# Altium schematic symbol library Schlib1.SchLib: 41 symbols
Pins are listed as number, name and electrical type; pins without a type are passive.

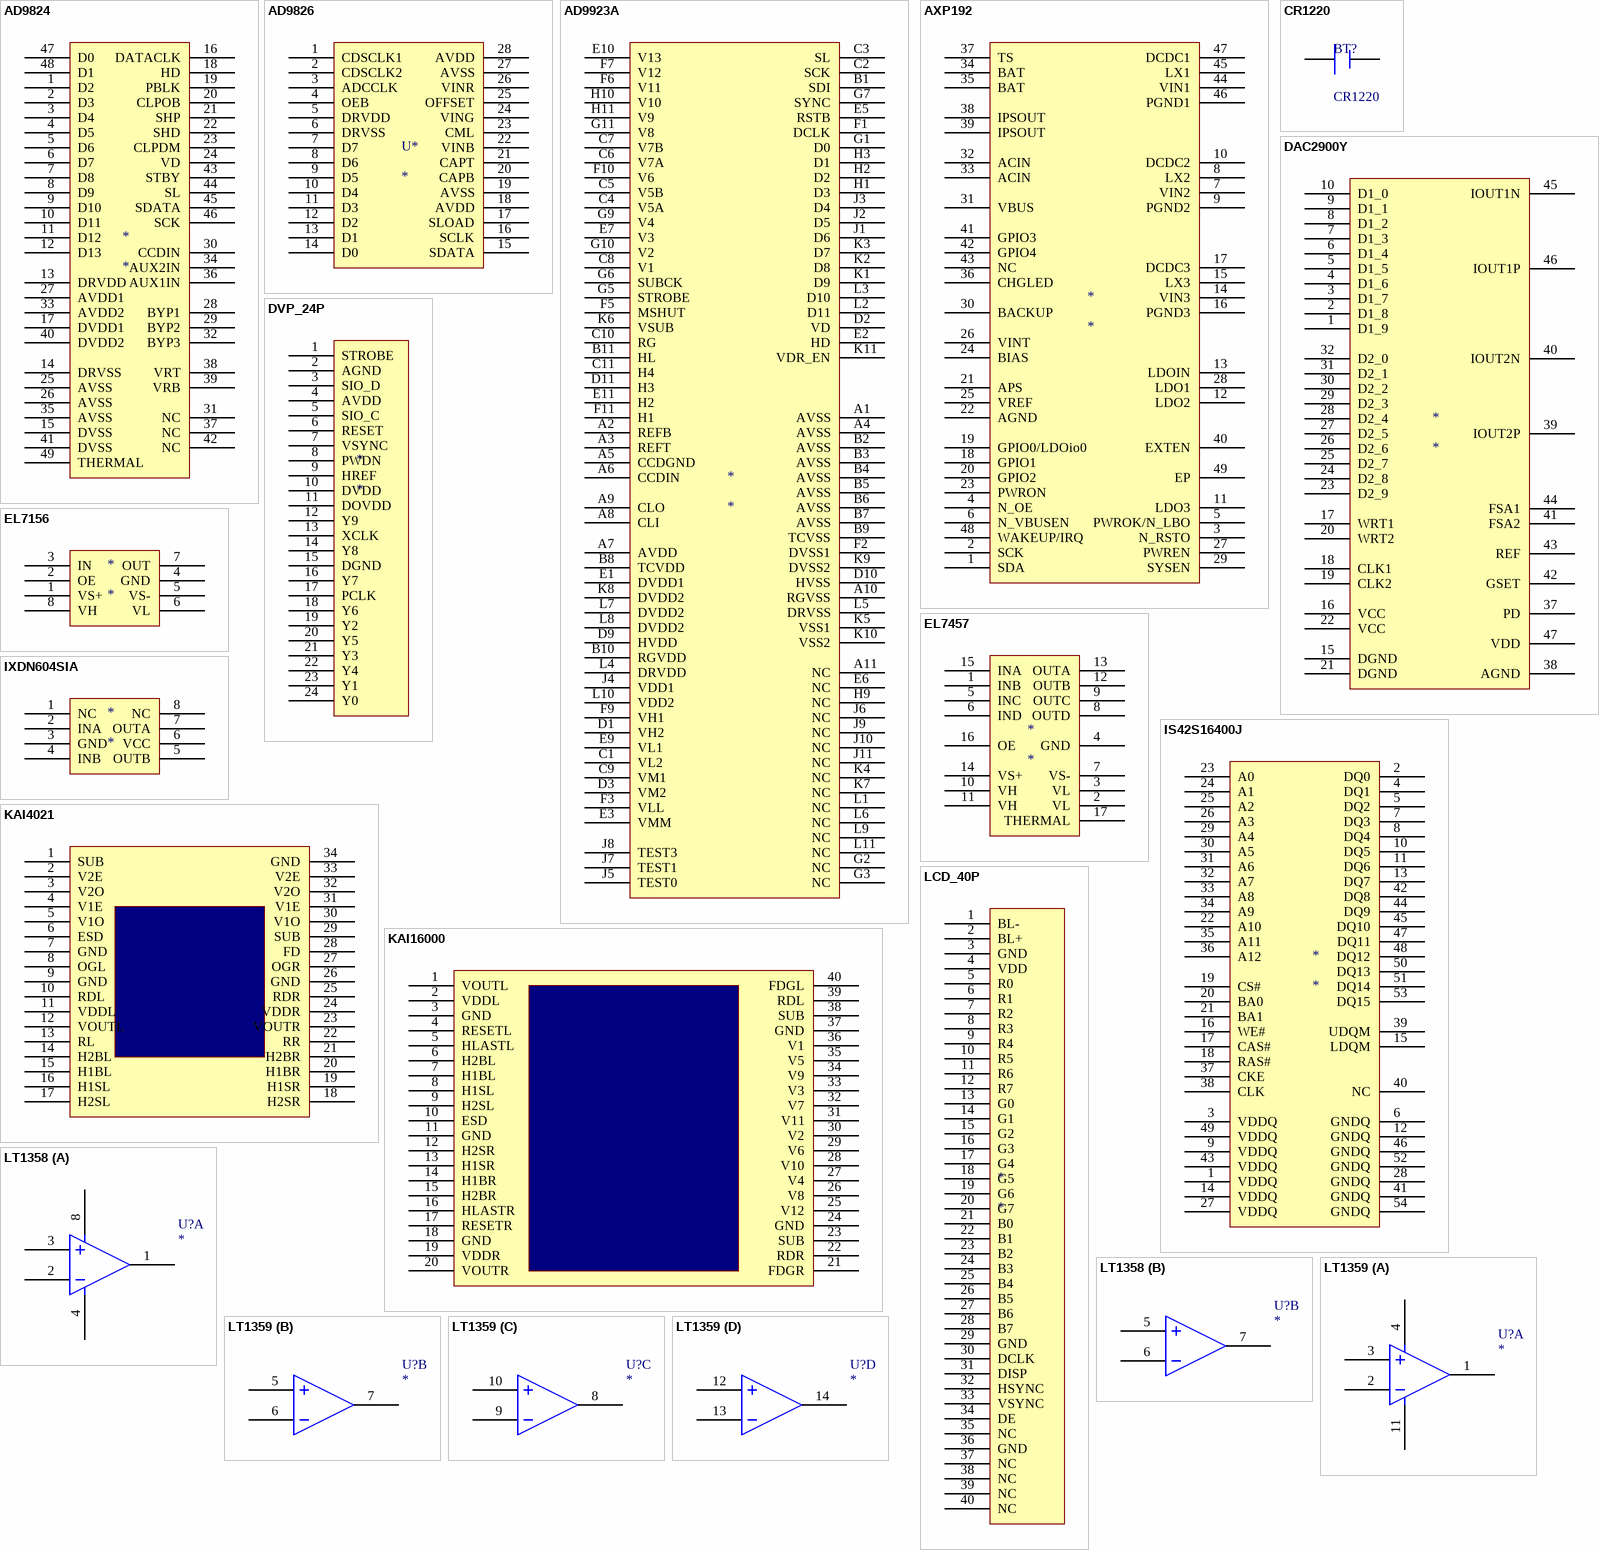
[diagram p0: symbols AD9824 to LT1359]

## AD9824
designator *
footprint CP-48 (Footprint not found)
pins: 1 D2, 2 D3, 3 D4, 4 D5, 5 D6, 6 D7, 7 D8, 8 D9, 9 D10, 10 D11, 11 D12, 12 D13, 13 DRVDD, 14 DRVSS, 15 DVSS, 16 DATACLK, 17 DVDD1, 18 HD, 19 PBLK, 20 CLPOB, 21 SHP, 22 SHD, 23 CLPDM, 24 VD, 25 AVSS, 26 AVSS, 27 AVDD1, 28 BYP1, 29 BYP2, 30 CCDIN, 31 NC, 32 BYP3, 33 AVDD2, 34 AUX2IN, 35 AVSS, 36 AUX1IN, 37 NC, 38 VRT, 39 VRB, 40 DVDD2, 41 DVSS, 42 NC, 43 STBY, 44 SL, 45 SDATA, 46 SCK, 47 D0, 48 D1, 49 THERMAL

## AD9826
designator U*
pins: 1 CDSCLK1, 2 CDSCLK2, 3 ADCCLK, 4 OEB, 5 DRVDD, 6 DRVSS, 7 D7, 8 D6, 9 D5, 10 D4, 11 D3, 12 D2, 13 D1, 14 D0, 15 SDATA, 16 SCLK, 17 SLOAD, 18 AVDD, 19 AVSS, 20 CAPB, 21 CAPT, 22 VINB, 23 CML, 24 VING, 25 OFFSET, 26 VINR, 27 AVSS, 28 AVDD

## AD9923A
designator *
pins: A1 AVSS, A2 REFB, A3 REFT, A4 AVSS, A5 CCDGND, A6 CCDIN, A7 AVDD, A8 CLI, A9 CLO, A10 RGVSS, A11 NC, B1 SDI, B2 AVSS, B3 AVSS, B4 AVSS, B5 AVSS, B6 AVSS, B7 AVSS, B8 TCVDD, B9 TCVSS, B10 RGVDD, B11 HL, C1 VL2, C2 SCK, C3 SL, C4 V5A, C5 V5B, C6 V7A, C7 V7B, C8 V1, C9 VM1, C10 RG, C11 H4, D1 VH2, D2 VD, D3 VM2, D9 HVDD, D10 HVSS, D11 H3, E1 DVDD1, E2 HD, E3 VMM, E5 RSTB, E6 NC, E7 V3, E9 VL1, E10 V13, E11 H2, F1 DCLK, F2 DVSS1, F3 VLL, F5 MSHUT, F6 V11, F7 V12, F9 VH1, F10 V6, F11 H1, G1 D0, G2 NC, G3 NC, G5 STROBE, G6 SUBCK, G7 SYNC, G9 V4, G10 V2, G11 V8, H1 D3, H2 D2, H3 D1, H9 NC, H10 V10, H11 V9, J1 D6, J2 D5, J3 D4, J4 VDD1, J5 TEST0, J6 NC, J7 TEST1, J8 TEST3, J9 NC, J10 NC, J11 NC, K1 D9, K2 D8, K3 D7, K4 NC, K5 VSS1, K6 VSUB, K7 NC, K8 DVDD2, K9 DVSS2, K10 VSS2, K11 VDR_EN, L1 NC, L2 D11, L3 D10, L4 DRVDD, L5 DRVSS, L6 NC, L7 DVDD2, L8 DVDD2, L9 NC, L10 VDD2, L11 NC

## AXP192
designator *
footprint QFN-48 (Footprint not found)
pins: 1 SDA, 2 SCK, 3 N_RSTO, 4 N_OE, 5 PWROK/N_LBO, 6 N_VBUSEN, 7 VIN2, 8 LX2, 9 PGND2, 10 DCDC2, 11 LDO3, 12 LDO2, 13 LDOIN, 14 VIN3, 15 LX3, 16 PGND3, 17 DCDC3, 18 GPIO1, 19 GPIO0/LDOio0, 20 GPIO2, 21 APS, 22 AGND, 23 PWRON, 24 BIAS, 25 VREF, 26 VINT, 27 PWREN, 28 LDO1, 29 SYSEN, 30 BACKUP, 31 VBUS, 32 ACIN, 33 ACIN, 34 BAT, 35 BAT, 36 CHGLED, 37 TS, 38 IPSOUT, 39 IPSOUT, 40 EXTEN, 41 GPIO3, 42 GPIO4, 43 NC, 44 VIN1, 45 LX1, 46 PGND1, 47 DCDC1, 48 WAKEUP/IRQ, 49 EP

## CR1220
designator BT?
Published: 24-Mar-1999; LatestRevisionDate: 17-Jul-2002; LatestRevisionNote: Re-released for DXP Platform.; PackageReference: BAT-2; Publisher: Altium Limited; PackageDescription: Battery; 2 Leads
footprint CR1220
pins: 1 +, 2 -

## DAC2900Y
designator *
pins: 1 D1_9, 2 D1_8, 3 D1_7, 4 D1_6, 5 D1_5, 6 D1_4, 7 D1_3, 8 D1_2, 9 D1_1, 10 D1_0, 15 DGND, 16 VCC, 17 WRT1, 18 CLK1, 19 CLK2, 20 WRT2, 21 DGND, 22 VCC, 23 D2_9, 24 D2_8, 25 D2_7, 26 D2_6, 27 D2_5, 28 D2_4, 29 D2_3, 30 D2_2, 31 D2_1, 32 D2_0, 37 PD, 38 AGND, 39 IOUT2P, 40 IOUT2N, 41 FSA2, 42 GSET, 43 REF, 44 FSA1, 45 IOUT1N, 46 IOUT1P, 47 VDD

## DVP_24P
designator *
footprint 24PIN-0.5MM (Footprint not found)
pins: 1 STROBE, 2 AGND, 3 SIO_D, 4 AVDD, 5 SIO_C, 6 RESET, 7 VSYNC, 8 PWDN, 9 HREF, 10 DVDD, 11 DOVDD, 12 Y9, 13 XCLK, 14 Y8, 15 DGND, 16 Y7, 17 PCLK, 18 Y6, 19 Y2, 20 Y5, 21 Y3, 22 Y4, 23 Y1, 24 Y0

## EL7156
designator *
footprint SOP-8 (Footprint not found)
pins: 1 VS+, 2 OE, 3 IN, 4 GND, 5 VS-, 6 VL, 7 OUT, 8 VH

## EL7457
designator *
footprint QFN16 (Footprint not found)
pins: 1 INB, 2 VL, 3 VL, 4 GND, 5 INC, 6 IND, 7 VS-, 8 OUTD, 9 OUTC, 10 VH, 11 VH, 12 OUTB, 13 OUTA, 14 VS+, 15 INA, 16 OE, 17 THERMAL

## IS42S16400J
designator *
footprint TSOP54
pins: 1 VDDQ, 2 DQ0, 3 VDDQ, 4 DQ1, 5 DQ2, 6 GNDQ, 7 DQ3, 8 DQ4, 9 VDDQ, 10 DQ5, 11 DQ6, 12 GNDQ, 13 DQ7, 14 VDDQ, 15 LDQM, 16 WE#, 17 CAS#, 18 RAS#, 19 CS#, 20 BA0, 21 BA1, 22 A10, 23 A0, 24 A1, 25 A2, 26 A3, 27 VDDQ, 28 GNDQ, 29 A4, 30 A5, 31 A6, 32 A7, 33 A8, 34 A9, 35 A11, 36 A12, 37 CKE, 38 CLK, 39 UDQM, 40 NC, 41 GNDQ, 42 DQ8, 43 VDDQ, 44 DQ9, 45 DQ10, 46 GNDQ, 47 DQ11, 48 DQ12, 49 VDDQ, 50 DQ13, 51 DQ14, 52 GNDQ, 53 DQ15, 54 GNDQ

## IXDN604SIA
designator *
footprint SOP8 (Footprint not found)
pins: 1 NC, 2 INA, 3 GND, 4 INB, 5 OUTB, 6 VCC, 7 OUTA, 8 NC

## KAI4021
designator *
pins: 1 SUB, 2 V2E, 3 V2O, 4 V1E, 5 V1O, 6 ESD, 7 GND, 8 OGL, 9 GND, 10 RDL, 11 VDDL, 12 VOUTL, 13 RL, 14 H2BL, 15 H1BL, 16 H1SL, 17 H2SL, 18 H2SR, 19 H1SR, 20 H1BR, 21 H2BR, 22 RR, 23 VOUTR, 24 VDDR, 25 RDR, 26 GND, 27 OGR, 28 FD, 29 SUB, 30 V1O, 31 V1E, 32 V2O, 33 V2E, 34 GND

## KAI16000
designator *
footprint KAI16000 (Footprint not found)
pins: 1 VOUTL, 2 VDDL, 3 GND, 4 RESETL, 5 HLASTL, 6 H2BL, 7 H1BL, 8 H1SL, 9 H2SL, 10 ESD, 11 GND, 12 H2SR, 13 H1SR, 14 H1BR, 15 H2BR, 16 HLASTR, 17 RESETR, 18 GND, 19 VDDR, 20 VOUTR, 21 FDGR, 22 RDR, 23 SUB, 24 GND, 25 V12, 26 V8, 27 V4, 28 V10, 29 V6, 30 V2, 31 V11, 32 V7, 33 V3, 34 V9, 35 V5, 36 V1, 37 GND, 38 SUB, 39 RDL, 40 FDGL

## LCD_40P
designator *
footprint 40PIN-0.5MM (Footprint not found)
pins: 1 BL-, 2 BL+, 3 GND, 4 VDD, 5 R0, 6 R1, 7 R2, 8 R3, 9 R4, 10 R5, 11 R6, 12 R7, 13 G0, 14 G1, 15 G2, 16 G3, 17 G4, 18 G5, 19 G6, 20 G7, 21 B0, 22 B1, 23 B2, 24 B3, 25 B4, 26 B5, 27 B6, 28 B7, 29 GND, 30 DCLK, 31 DISP, 32 HSYNC, 33 VSYNC, 34 DE, 35 NC, 36 GND, 37 NC, 38 NC, 39 NC, 40 NC

## LT1358
designator U?
part A pins: 1, 2, 3, 4, 8
part B pins: 5, 6, 7

## LT1359
designator U?
footprint DIP-14
part A pins: 1, 2, 3, 4, 11
part B pins: 5, 6, 7
part C pins: 8, 9, 10
part D pins: 12, 13, 14

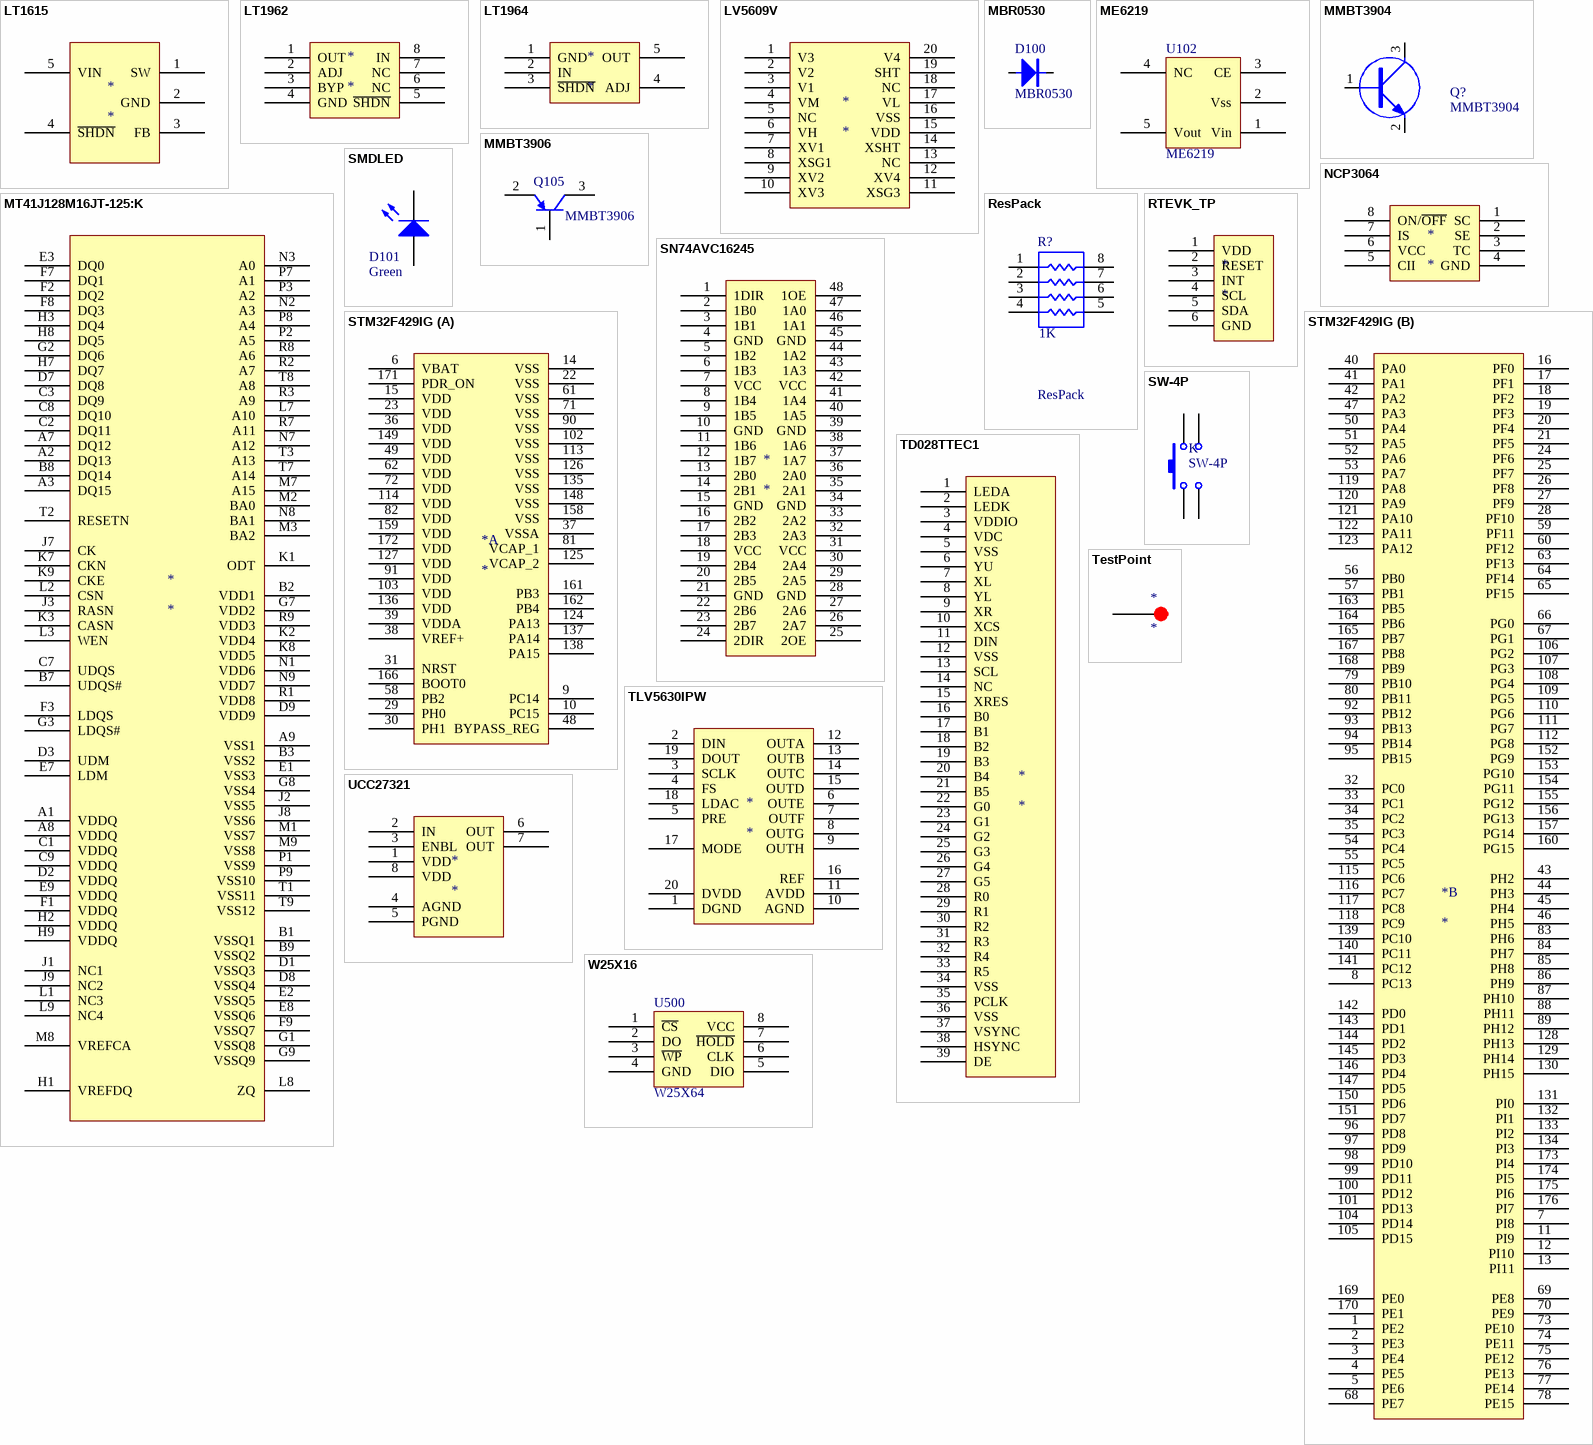
[diagram p1: symbols LT1615 to W25X16]

## LT1615
designator *
footprint SOT-23-5
pins: 1 SW, 2 GND, 3 FB, 4 ~{SHDN}, 5 VIN

## LT1962
designator *
footprint MS8 (Footprint not found)
pins: 1 OUT, 2 ADJ, 3 BYP, 4 GND, 5 ~{SHDN}, 6 NC, 7 NC, 8 IN

## LT1964
designator *
footprint SOT25 (Footprint not found)
pins: 1 GND, 2 IN, 3 ~{SHDN}, 4 ADJ, 5 OUT

## LV5609V
designator *
pins: 1 V3, 2 V2, 3 V1, 4 VM, 5 NC, 6 VH, 7 XV1, 8 XSG1, 9 XV2, 10 XV3, 11 XSG3, 12 XV4, 13 NC, 14 XSHT, 15 VDD, 16 VSS, 17 VL, 18 NC, 19 SHT, 20 V4

## MBR0530
designator D100
footprint SOD-123
pins: 1, 2

## ME6219
designator U102
footprint SOT-23-5
pins: 1 Vin, 2 Vss, 3 CE, 4 NC, 5 Vout

## MMBT3904
designator Q?
footprint SOT23
pins: 1 B, 2 E, 3 C

## MMBT3906
designator Q105
Published: 8-Jun-2000; LatestRevisionDate: 29-May-2009; LatestRevisionNote: IPC-7351 Footprint Added.; PackageVersion: Aug-1999; PackageReference: SOT-23B; Publisher: Altium Limited; PackageDescription: 3-Pin SOT-23 Package 0.95 mm Pitch, 2.4 mm Lead Span
footprint SOT23
pins: 1 B, 2 E, 3 C

## MT41J128M16JT-125:K
designator *
pins: A1 VDDQ, A2 DQ13, A3 DQ15, A7 DQ12, A8 VDDQ, A9 VSS1, B1 VSSQ1, B2 VDD1, B3 VSS2, B7 UDQS#, B8 DQ14, B9 VSSQ2, C1 VDDQ, C2 DQ11, C3 DQ9, C7 UDQS, C8 DQ10, C9 VDDQ, D1 VSSQ3, D2 VDDQ, D3 UDM, D7 DQ8, D8 VSSQ4, D9 VDD9, E1 VSS3, E2 VSSQ5, E3 DQ0, E7 LDM, E8 VSSQ6, E9 VDDQ, F1 VDDQ, F2 DQ2, F3 LDQS, F7 DQ1, F8 DQ3, F9 VSSQ7, G1 VSSQ8, G2 DQ6, G3 LDQS#, G7 VDD2, G8 VSS4, G9 VSSQ9, H1 VREFDQ, H2 VDDQ, H3 DQ4, H7 DQ7, H8 DQ5, H9 VDDQ, J1 NC1, J2 VSS5, J3 RASN, J7 CK, J8 VSS6, J9 NC2, K1 ODT, K2 VDD4, K3 CASN, K7 CKN, K8 VDD5, K9 CKE, L1 NC3, L2 CSN, L3 WEN, L7 A10, L8 ZQ, L9 NC4, M1 VSS7, M2 BA0, M3 BA2, M7 A15, M8 VREFCA, M9 VSS8, N1 VDD6, N2 A3, N3 A0, N7 A12, N8 BA1, N9 VDD7, P1 VSS9, P2 A5, P3 A2, P7 A1, P8 A4, P9 VSS10, R1 VDD8, R2 A7, R3 A9, R7 A11, R8 A6, R9 VDD3, T1 VSS11, T2 RESETN, T3 A13, T7 A14, T8 A8, T9 VSS12

## NCP3064
designator *
footprint SOP-8 (Footprint not found)
pins: 1 SC, 2 SE, 3 TC, 4 GND, 5 CII, 6 VCC, 7 IS, 8 ON/~{OFF}

## ResPack
designator R?  value 1K
Isolated Resistor Network; Published: 24-Mar-1999; LatestRevisionDate: 29-May-2009; LatestRevisionNote: IPC-7351 Footprint Added.; PackageReference: SO-16; Publisher: Altium Limited; PackageDescription: 16-Pin Small Outline Integrated Circuit 1.27 mm Pitch; Code_JEDEC: MS-012-AC; Code_IPC: SOIC127P600-16
footprint RP8
pins: 1, 2, 3, 4, 5, 6, 7, 8

## RTEVK_TP
designator *
footprint CTP (Footprint not found)
pins: 1 VDD, 2 RESET, 3 INT, 4 SCL, 5 SDA, 6 GND

## SMDLED
designator D101, comment Green
Typical RED, GREEN, YELLOW, AMBER GaAs LED; Published: 8-Jun-2000; LatestRevisionDate: 17-Jul-2002; LatestRevisionNote: Re-released for DXP Platform.; PackageVersion: Feb-2002; PackageReference: 3.2X1.6X1.1; Publisher: Altium Limited; PackageDescription: SM LED; 2 Flat Leads
footprint D0805 (Footprint not found)
simulation model LED2 (Diode)
pins: A, K

## SN74AVC16245
designator *
footprint TSSOP-48
pins: 1 1DIR, 2 1B0, 3 1B1, 4 GND, 5 1B2, 6 1B3, 7 VCC, 8 1B4, 9 1B5, 10 GND, 11 1B6, 12 1B7, 13 2B0, 14 2B1, 15 GND, 16 2B2, 17 2B3, 18 VCC, 19 2B4, 20 2B5, 21 GND, 22 2B6, 23 2B7, 24 2DIR, 25 2OE, 26 2A7, 27 2A6, 28 GND, 29 2A5, 30 2A4, 31 VCC, 32 2A3, 33 2A2, 34 GND, 35 2A1, 36 2A0, 37 1A7, 38 1A6, 39 GND, 40 1A5, 41 1A4, 42 VCC, 43 1A3, 44 1A2, 45 GND, 46 1A1, 47 1A0, 48 1OE

## STM32F429IG
designator *
footprint LQFP176
part A pins: 6 VBAT, 9 PC14, 10 PC15, 14 VSS, 15 VDD, 22 VSS, 23 VDD, 29 PH0, 30 PH1, 31 NRST, 36 VDD, 37 VSSA, 38 VREF+, 39 VDDA, 48 BYPASS_REG, 49 VDD, 58 PB2, 61 VSS, 62 VDD, 71 VSS, 72 VDD, 81 VCAP_1, 82 VDD, 90 VSS, 91 VDD, 102 VSS, 103 VDD, 113 VSS, 114 VDD, 124 PA13, 125 VCAP_2, 126 VSS, 127 VDD, 135 VSS, 136 VDD, 137 PA14, 138 PA15, 148 VSS, 149 VDD, 158 VSS, 159 VDD, 161 PB3, 162 PB4, 166 BOOT0, 171 PDR_ON, 172 VDD
part B pins: 1 PE2, 2 PE3, 3 PE4, 4 PE5, 5 PE6, 7 PI8, 8 PC13, 11 PI9, 12 PI10, 13 PI11, 16 PF0, 17 PF1, 18 PF2, 19 PF3, 20 PF4, 21 PF5, 24 PF6, 25 PF7, 26 PF8, 27 PF9, 28 PF10, 32 PC0, 33 PC1, 34 PC2, 35 PC3, 40 PA0, 41 PA1, 42 PA2, 43 PH2, 44 PH3, 45 PH4, 46 PH5, 47 PA3, 50 PA4, 51 PA5, 52 PA6, 53 PA7, 54 PC4, 55 PC5, 56 PB0, 57 PB1, 59 PF11, 60 PF12, 63 PF13, 64 PF14, 65 PF15, 66 PG0, 67 PG1, 68 PE7, 69 PE8, 70 PE9, 73 PE10, 74 PE11, 75 PE12, 76 PE13, 77 PE14, 78 PE15, 79 PB10, 80 PB11, 83 PH6, 84 PH7, 85 PH8, 86 PH9, 87 PH10, 88 PH11, 89 PH12, 92 PB12, 93 PB13, 94 PB14, 95 PB15, 96 PD8, 97 PD9, 98 PD10, 99 PD11, 100 PD12, 101 PD13, 104 PD14, 105 PD15, 106 PG2, 107 PG3, 108 PG4, 109 PG5, 110 PG6, 111 PG7, 112 PG8, 115 PC6, 116 PC7, 117 PC8, 118 PC9, 119 PA8, 120 PA9, 121 PA10, 122 PA11, 123 PA12, 128 PH13, 129 PH14, 130 PH15, 131 PI0, 132 PI1, 133 PI2, 134 PI3, 139 PC10, 140 PC11, 141 PC12, 142 PD0, 143 PD1, 144 PD2, 145 PD3, 146 PD4, 147 PD5, 150 PD6, 151 PD7, 152 PG9, 153 PG10, 154 PG11, 155 PG12, 156 PG13, 157 PG14, 160 PG15, 163 PB5, 164 PB6, 165 PB7, 167 PB8, 168 PB9, 169 PE0, 170 PE1, 173 PI4, 174 PI5, 175 PI6, 176 PI7

## SW-4P
designator K
Switch; Published: 24-Mar-1999; LatestRevisionDate: 17-Jul-2002; LatestRevisionNote: Re-released for DXP Platform.; PackageReference: SPST-2; Publisher: Altium Limited; PackageDescription: Switch; 2 Leads
footprint KEY-4P (Footprint not found)
pins: 1, 2, 3, 4

## TD028TTEC1
designator *
pins: 1 LEDA, 2 LEDK, 3 VDDIO, 4 VDC, 5 VSS, 6 YU, 7 XL, 8 YL, 9 XR, 10 XCS, 11 DIN, 12 VSS, 13 SCL, 14 NC, 15 XRES, 16 B0, 17 B1, 18 B2, 19 B3, 20 B4, 21 B5, 22 G0, 23 G1, 24 G2, 25 G3, 26 G4, 27 G5, 28 R0, 29 R1, 30 R2, 31 R3, 32 R4, 33 R5, 34 VSS, 35 PCLK, 36 VSS, 37 VSYNC, 38 HSYNC, 39 DE

## TestPoint
designator *
footprint T_0_7 (Footprint not found)
pins: 1 CMPCS_B

## TLV5630IPW
designator *
pins: 1 DGND, 2 DIN, 3 SCLK, 4 FS, 5 PRE, 6 OUTE, 7 OUTF, 8 OUTG, 9 OUTH, 10 AGND, 11 AVDD, 12 OUTA, 13 OUTB, 14 OUTC, 15 OUTD, 16 REF, 17 MODE, 18 LDAC, 19 DOUT, 20 DVDD

## UCC27321
designator *
pins: 1 VDD, 2 IN, 3 ENBL, 4 AGND, 5 PGND, 6 OUT, 7 OUT, 8 VDD

## W25X16
designator U500, comment W25X64
footprint SOIC8
pins: 1 ~{CS}, 2 DO, 3 ~{WP}, 4 GND, 5 DIO, 6 CLK, 7 ~{HOLD}, 8 VCC

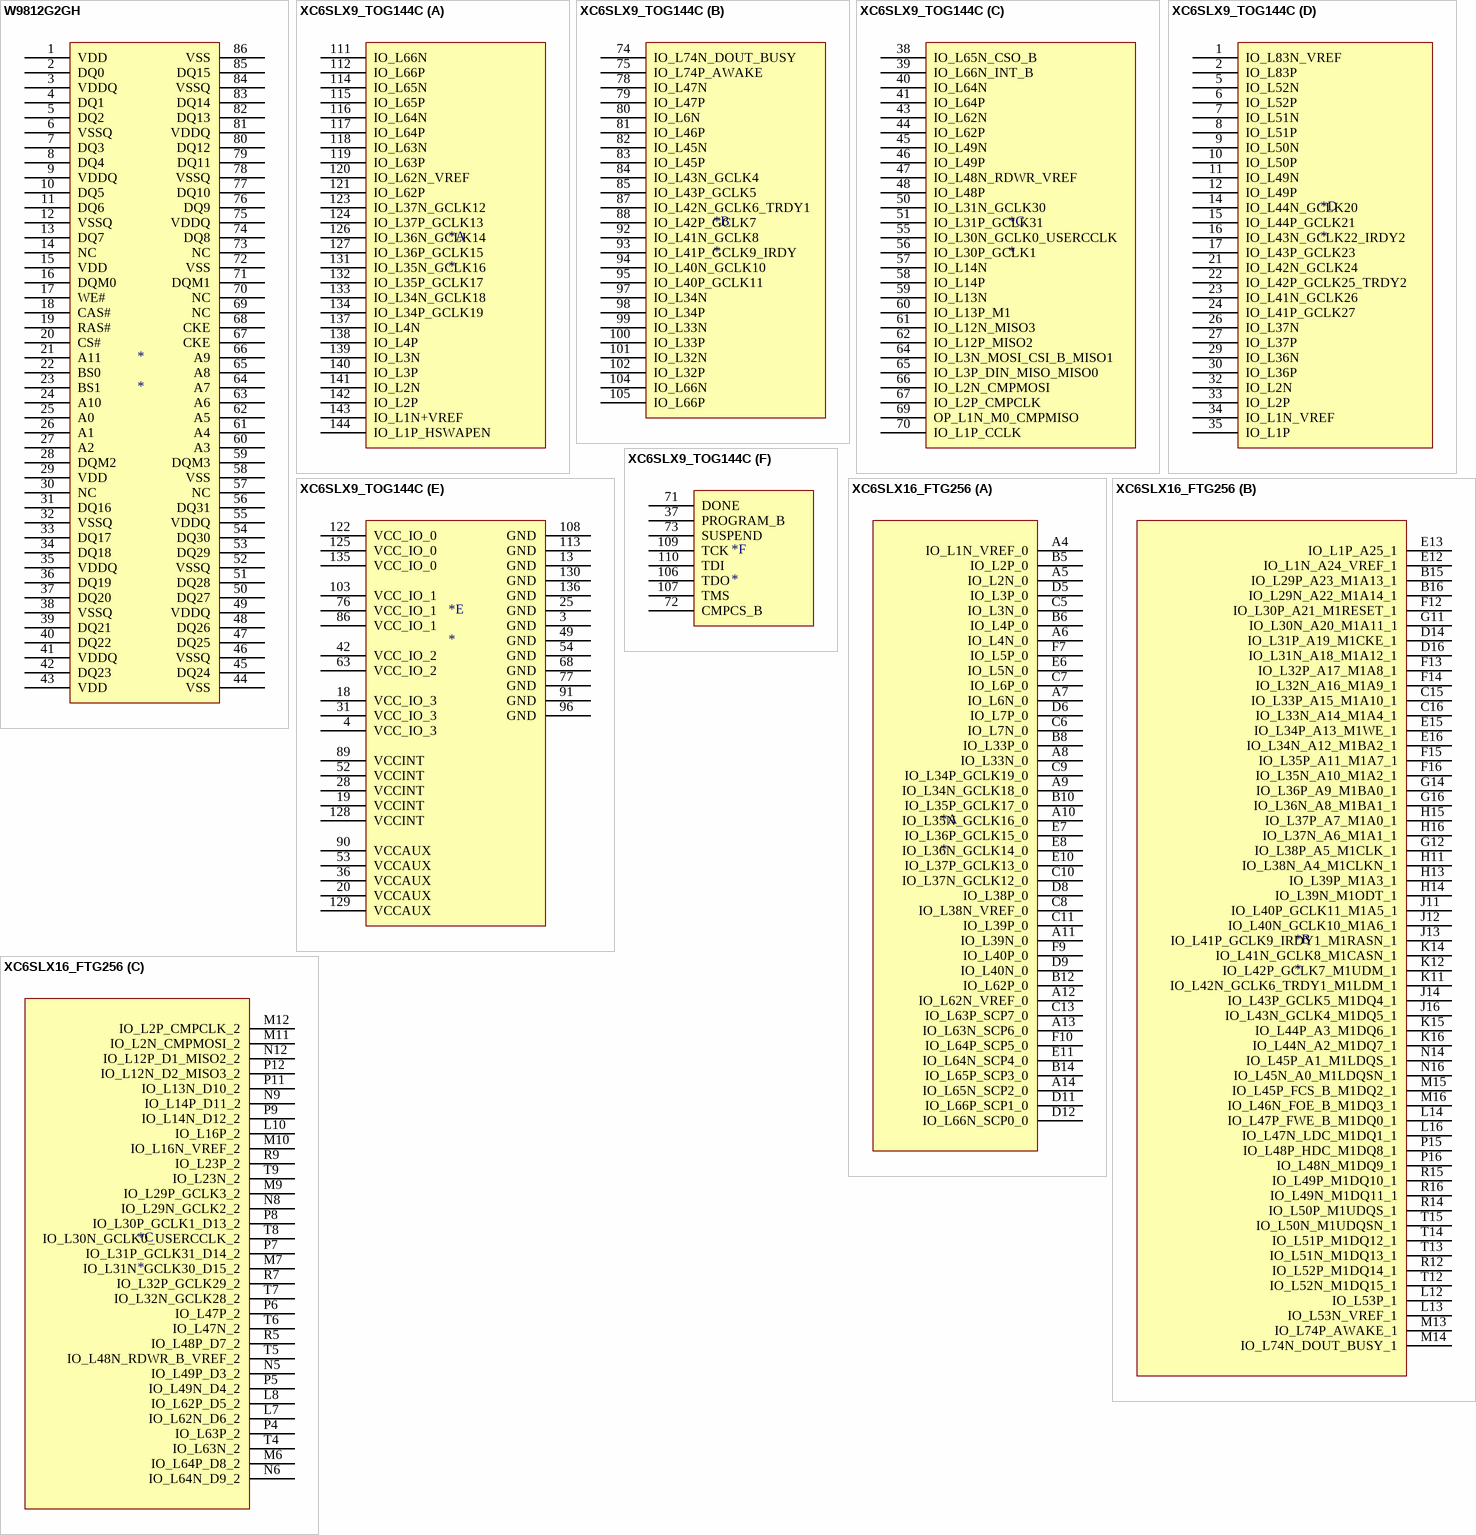
[diagram p2: symbols W9812G2GH to XC6SLX16_FTG256]

## W9812G2GH
designator *
pins: 1 VDD, 2 DQ0, 3 VDDQ, 4 DQ1, 5 DQ2, 6 VSSQ, 7 DQ3, 8 DQ4, 9 VDDQ, 10 DQ5, 11 DQ6, 12 VSSQ, 13 DQ7, 14 NC, 15 VDD, 16 DQM0, 17 WE#, 18 CAS#, 19 RAS#, 20 CS#, 21 A11, 22 BS0, 23 BS1, 24 A10, 25 A0, 26 A1, 27 A2, 28 DQM2, 29 VDD, 30 NC, 31 DQ16, 32 VSSQ, 33 DQ17, 34 DQ18, 35 VDDQ, 36 DQ19, 37 DQ20, 38 VSSQ, 39 DQ21, 40 DQ22, 41 VDDQ, 42 DQ23, 43 VDD, 44 VSS, 45 DQ24, 46 VSSQ, 47 DQ25, 48 DQ26, 49 VDDQ, 50 DQ27, 51 DQ28, 52 VSSQ, 53 DQ29, 54 DQ30, 55 VDDQ, 56 DQ31, 57 NC, 58 VSS, 59 DQM3, 60 A3, 61 A4, 62 A5, 63 A6, 64 A7, 65 A8, 66 A9, 67 CKE, 68 CKE, 69 NC, 70 NC, 71 DQM1, 72 VSS, 73 NC, 74 DQ8, 75 VDDQ, 76 DQ9, 77 DQ10, 78 VSSQ, 79 DQ11, 80 DQ12, 81 VDDQ, 82 DQ13, 83 DQ14, 84 VSSQ, 85 DQ15, 86 VSS

## XC6SLX9_TOG144C
designator *
footprint TQFP144 (Footprint not found)
part A pins: 111 IO_L66N, 112 IO_L66P, 114 IO_L65N, 115 IO_L65P, 116 IO_L64N, 117 IO_L64P, 118 IO_L63N, 119 IO_L63P, 120 IO_L62N_VREF, 121 IO_L62P, 123 IO_L37N_GCLK12, 124 IO_L37P_GCLK13, 126 IO_L36N_GCLK14, 127 IO_L36P_GCLK15, 131 IO_L35N_GCLK16, 132 IO_L35P_GCLK17, 133 IO_L34N_GCLK18, 134 IO_L34P_GCLK19, 137 IO_L4N, 138 IO_L4P, 139 IO_L3N, 140 IO_L3P, 141 IO_L2N, 142 IO_L2P, 143 IO_L1N+VREF, 144 IO_L1P_HSWAPEN
part B pins: 74 IO_L74N_DOUT_BUSY, 75 IO_L74P_AWAKE, 78 IO_L47N, 79 IO_L47P, 80 IO_L6N, 81 IO_L46P, 82 IO_L45N, 83 IO_L45P, 84 IO_L43N_GCLK4, 85 IO_L43P_GCLK5, 87 IO_L42N_GCLK6_TRDY1, 88 IO_L42P_GCLK7, 92 IO_L41N_GCLK8, 93 IO_L41P_GCLK9_IRDY, 94 IO_L40N_GCLK10, 95 IO_L40P_GCLK11, 97 IO_L34N, 98 IO_L34P, 99 IO_L33N, 100 IO_L33P, 101 IO_L32N, 102 IO_L32P, 104 IO_L66N, 105 IO_L66P
part C pins: 38 IO_L65N_CSO_B, 39 IO_L66N_INT_B, 40 IO_L64N, 41 IO_L64P, 43 IO_L62N, 44 IO_L62P, 45 IO_L49N, 46 IO_L49P, 47 IO_L48N_RDWR_VREF, 48 IO_L48P, 50 IO_L31N_GCLK30, 51 IO_L31P_GCLK31, 55 IO_L30N_GCLK0_USERCCLK, 56 IO_L30P_GCLK1, 57 IO_L14N, 58 IO_L14P, 59 IO_L13N, 60 IO_L13P_M1, 61 IO_L12N_MISO3, 62 IO_L12P_MISO2, 64 IO_L3N_MOSI_CSI_B_MISO1, 65 IO_L3P_DIN_MISO_MISO0, 66 IO_L2N_CMPMOSI, 67 IO_L2P_CMPCLK, 69 OP_L1N_M0_CMPMISO, 70 IO_L1P_CCLK
part D pins: 1 IO_L83N_VREF, 2 IO_L83P, 5 IO_L52N, 6 IO_L52P, 7 IO_L51N, 8 IO_L51P, 9 IO_L50N, 10 IO_L50P, 11 IO_L49N, 12 IO_L49P, 14 IO_L44N_GCLK20, 15 IO_L44P_GCLK21, 16 IO_L43N_GCLK22_IRDY2, 17 IO_L43P_GCLK23, 21 IO_L42N_GCLK24, 22 IO_L42P_GCLK25_TRDY2, 23 IO_L41N_GCLK26, 24 IO_L41P_GCLK27, 26 IO_L37N, 27 IO_L37P, 29 IO_L36N, 30 IO_L36P, 32 IO_L2N, 33 IO_L2P, 34 IO_L1N_VREF, 35 IO_L1P
part E pins: 3 GND, 4 VCC_IO_3, 13 GND, 18 VCC_IO_3, 19 VCCINT, 20 VCCAUX, 25 GND, 28 VCCINT, 31 VCC_IO_3, 36 VCCAUX, 42 VCC_IO_2, 49 GND, 52 VCCINT, 53 VCCAUX, 54 GND, 63 VCC_IO_2, 68 GND, 76 VCC_IO_1, 77 GND, 86 VCC_IO_1, 89 VCCINT, 90 VCCAUX, 91 GND, 96 GND, 103 VCC_IO_1, 108 GND, 113 GND, 122 VCC_IO_0, 125 VCC_IO_0, 128 VCCINT, 129 VCCAUX, 130 GND, 135 VCC_IO_0, 136 GND
part F pins: 37 PROGRAM_B, 71 DONE, 72 CMPCS_B, 73 SUSPEND, 106 TDO, 107 TMS, 109 TCK, 110 TDI

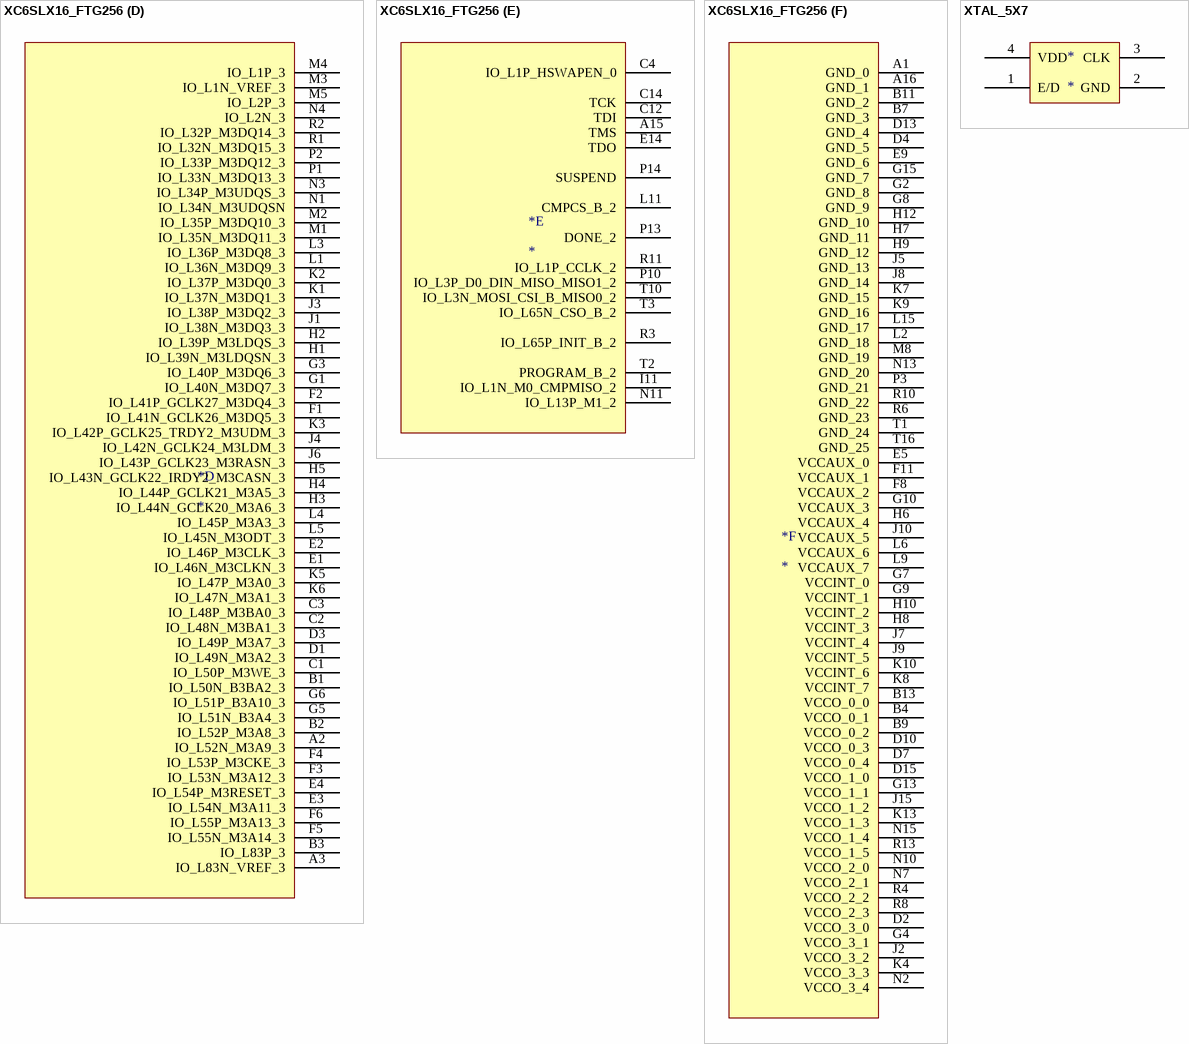
[diagram p3: symbols XC6SLX16_FTG256 to XTAL_5X7]

## XC6SLX16_FTG256
designator *
part A pins: A4 IO_L1N_VREF_0, A5 IO_L2N_0, A6 IO_L4N_0, A7 IO_L6N_0, A8 IO_L33N_0, A9 IO_L34N_GCLK18_0, A10 IO_L35N_GCLK16_0, A11 IO_L39N_0, A12 IO_L62N_VREF_0, A13 IO_L63N_SCP6_0, A14 IO_L65N_SCP2_0, B5 IO_L2P_0, B6 IO_L4P_0, B8 IO_L33P_0, B10 IO_L35P_GCLK17_0, B12 IO_L62P_0, B14 IO_L65P_SCP3_0, C5 IO_L3N_0, C6 IO_L7N_0, C7 IO_L6P_0, C8 IO_L38N_VREF_0, C9 IO_L34P_GCLK19_0, C10 IO_L37N_GCLK12_0, C11 IO_L39P_0, C13 IO_L63P_SCP7_0, D5 IO_L3P_0, D6 IO_L7P_0, D8 IO_L38P_0, D9 IO_L40N_0, D11 IO_L66P_SCP1_0, D12 IO_L66N_SCP0_0, E6 IO_L5N_0, E7 IO_L36P_GCLK15_0, E8 IO_L36N_GCLK14_0, E10 IO_L37P_GCLK13_0, E11 IO_L64N_SCP4_0, F7 IO_L5P_0, F9 IO_L40P_0, F10 IO_L64P_SCP5_0
part B pins: B15 IO_L29P_A23_M1A13_1, B16 IO_L29N_A22_M1A14_1, C15 IO_L33P_A15_M1A10_1, C16 IO_L33N_A14_M1A4_1, D14 IO_L31P_A19_M1CKE_1, D16 IO_L31N_A18_M1A12_1, E12 IO_L1N_A24_VREF_1, E13 IO_L1P_A25_1, E15 IO_L34P_A13_M1WE_1, E16 IO_L34N_A12_M1BA2_1, F12 IO_L30P_A21_M1RESET_1, F13 IO_L32P_A17_M1A8_1, F14 IO_L32N_A16_M1A9_1, F15 IO_L35P_A11_M1A7_1, F16 IO_L35N_A10_M1A2_1, G11 IO_L30N_A20_M1A11_1, G12 IO_L38P_A5_M1CLK_1, G14 IO_L36P_A9_M1BA0_1, G16 IO_L36N_A8_M1BA1_1, H11 IO_L38N_A4_M1CLKN_1, H13 IO_L39P_M1A3_1, H14 IO_L39N_M1ODT_1, H15 IO_L37P_A7_M1A0_1, H16 IO_L37N_A6_M1A1_1, J11 IO_L40P_GCLK11_M1A5_1, J12 IO_L40N_GCLK10_M1A6_1, J13 IO_L41P_GCLK9_IRDY1_M1RASN_1, J14 IO_L43P_GCLK5_M1DQ4_1, J16 IO_L43N_GCLK4_M1DQ5_1, K11 IO_L42N_GCLK6_TRDY1_M1LDM_1, K12 IO_L42P_GCLK7_M1UDM_1, K14 IO_L41N_GCLK8_M1CASN_1, K15 IO_L44P_A3_M1DQ6_1, K16 IO_L44N_A2_M1DQ7_1, L12 IO_L53P_1, L13 IO_L53N_VREF_1, L14 IO_L47P_FWE_B_M1DQ0_1, L16 IO_L47N_LDC_M1DQ1_1, M13 IO_L74P_AWAKE_1, M14 IO_L74N_DOUT_BUSY_1, M15 IO_L45P_FCS_B_M1DQ2_1, M16 IO_L46N_FOE_B_M1DQ3_1, N14 IO_L45P_A1_M1LDQS_1, N16 IO_L45N_A0_M1LDQSN_1, P15 IO_L48P_HDC_M1DQ8_1, P16 IO_L48N_M1DQ9_1, R12 IO_L52P_M1DQ14_1, R14 IO_L50P_M1UDQS_1, R15 IO_L49P_M1DQ10_1, R16 IO_L49N_M1DQ11_1, T12 IO_L52N_M1DQ15_1, T13 IO_L51N_M1DQ13_1, T14 IO_L51P_M1DQ12_1, T15 IO_L50N_M1UDQSN_1
part C pins: L7 IO_L62N_D6_2, L8 IO_L62P_D5_2, L10 IO_L16P_2, M6 IO_L64P_D8_2, M7 IO_L31N_GCLK30_D15_2, M9 IO_L29P_GCLK3_2, M10 IO_L16N_VREF_2, M11 IO_L2N_CMPMOSI_2, M12 IO_L2P_CMPCLK_2, N5 IO_L49P_D3_2, N6 IO_L64N_D9_2, N8 IO_L29N_GCLK2_2, N9 IO_L14P_D11_2, N12 IO_L12P_D1_MISO2_2, P4 IO_L63P_2, P5 IO_L49N_D4_2, P6 IO_L47P_2, P7 IO_L31P_GCLK31_D14_2, P8 IO_L30P_GCLK1_D13_2, P9 IO_L14N_D12_2, P11 IO_L13N_D10_2, P12 IO_L12N_D2_MISO3_2, R5 IO_L48P_D7_2, R7 IO_L32P_GCLK29_2, R9 IO_L23P_2, T4 IO_L63N_2, T5 IO_L48N_RDWR_B_VREF_2, T6 IO_L47N_2, T7 IO_L32N_GCLK28_2, T8 IO_L30N_GCLK0_USERCCLK_2, T9 IO_L23N_2
part D pins: A2 IO_L52N_M3A9_3, A3 IO_L83N_VREF_3, B1 IO_L50N_B3BA2_3, B2 IO_L52P_M3A8_3, B3 IO_L83P_3, C1 IO_L50P_M3WE_3, C2 IO_L48N_M3BA1_3, C3 IO_L48P_M3BA0_3, D1 IO_L49N_M3A2_3, D3 IO_L49P_M3A7_3, E1 IO_L46N_M3CLKN_3, E2 IO_L46P_M3CLK_3, E3 IO_L54N_M3A11_3, E4 IO_L54P_M3RESET_3, F1 IO_L41N_GCLK26_M3DQ5_3, F2 IO_L41P_GCLK27_M3DQ4_3, F3 IO_L53N_M3A12_3, F4 IO_L53P_M3CKE_3, F5 IO_L55N_M3A14_3, F6 IO_L55P_M3A13_3, G1 IO_L40N_M3DQ7_3, G3 IO_L40P_M3DQ6_3, G5 IO_L51N_B3A4_3, G6 IO_L51P_B3A10_3, H1 IO_L39N_M3LDQSN_3, H2 IO_L39P_M3LDQS_3, H3 IO_L44N_GCLK20_M3A6_3, H4 IO_L44P_GCLK21_M3A5_3, H5 IO_L43N_GCLK22_IRDY2_M3CASN_3, J1 IO_L38N_M3DQ3_3, J3 IO_L38P_M3DQ2_3, J4 IO_L42N_GCLK24_M3LDM_3, J6 IO_L43P_GCLK23_M3RASN_3, K1 IO_L37N_M3DQ1_3, K2 IO_L37P_M3DQ0_3, K3 IO_L42P_GCLK25_TRDY2_M3UDM_3, K5 IO_L47P_M3A0_3, K6 IO_L47N_M3A1_3, L1 IO_L36N_M3DQ9_3, L3 IO_L36P_M3DQ8_3, L4 IO_L45P_M3A3_3, L5 IO_L45N_M3ODT_3, M1 IO_L35N_M3DQ11_3, M2 IO_L35P_M3DQ10_3, M3 IO_L1N_VREF_3, M4 IO_L1P_3, M5 IO_L2P_3, N1 IO_L34N_M3UDQSN, N3 IO_L34P_M3UDQS_3, N4 IO_L2N_3, P1 IO_L33N_M3DQ13_3, P2 IO_L33P_M3DQ12_3, R1 IO_L32N_M3DQ15_3, R2 IO_L32P_M3DQ14_3
part E pins: A15 TMS, C4 IO_L1P_HSWAPEN_0, C12 TDI, C14 TCK, E14 TDO, I11 IO_L1N_M0_CMPMISO_2, L11 CMPCS_B_2, N11 IO_L13P_M1_2, P10 IO_L3P_D0_DIN_MISO_MISO1_2, P13 DONE_2, P14 SUSPEND, R3 IO_L65P_INIT_B_2, R11 IO_L1P_CCLK_2, T2 PROGRAM_B_2, T3 IO_L65N_CSO_B_2, T10 IO_L3N_MOSI_CSI_B_MISO0_2
part F pins: A1 GND_0, A16 GND_1, B4 VCCO_0_1, B7 GND_3, B9 VCCO_0_2, B11 GND_2, B13 VCCO_0_0, D2 VCCO_3_0, D4 GND_5, D7 VCCO_0_4, D10 VCCO_0_3, D13 GND_4, D15 VCCO_1_0, E5 VCCAUX_0, E9 GND_6, F8 VCCAUX_2, F11 VCCAUX_1, G2 GND_8, G4 VCCO_3_1, G7 VCCINT_0, G8 GND_9, G9 VCCINT_1, G10 VCCAUX_3, G13 VCCO_1_1, G15 GND_7, H6 VCCAUX_4, H7 GND_11, H8 VCCINT_3, H9 GND_12, H10 VCCINT_2, H12 GND_10, J2 VCCO_3_2, J5 GND_13, J7 VCCINT_4, J8 GND_14, J9 VCCINT_5, J10 VCCAUX_5, J15 VCCO_1_2, K4 VCCO_3_3, K7 GND_15, K8 VCCINT_7, K9 GND_16, K10 VCCINT_6, K13 VCCO_1_3, L2 GND_18, L6 VCCAUX_6, L9 VCCAUX_7, L15 GND_17, M8 GND_19, N2 VCCO_3_4, N7 VCCO_2_1, N10 VCCO_2_0, N13 GND_20, N15 VCCO_1_4, P3 GND_21, R4 VCCO_2_2, R6 GND_23, R8 VCCO_2_3, R10 GND_22, R13 VCCO_1_5, T1 GND_24, T16 GND_25

## XTAL_5X7
designator *
footprint 7050
pins: 1 E/D, 2 GND, 3 CLK, 4 VDD